# Altium footprint library 封装图库.PcbLib: 12 footprints
Each footprint in its own frame and in the unit in brackets; x right, y up, seen from the top. Pads: shape width x height; smd on the part's side, far side on the other; paste and mask are expansions set on the pad; w line width, h text height; cw(c..) or ccw(c..) is an arc to the next point about the centre after c.
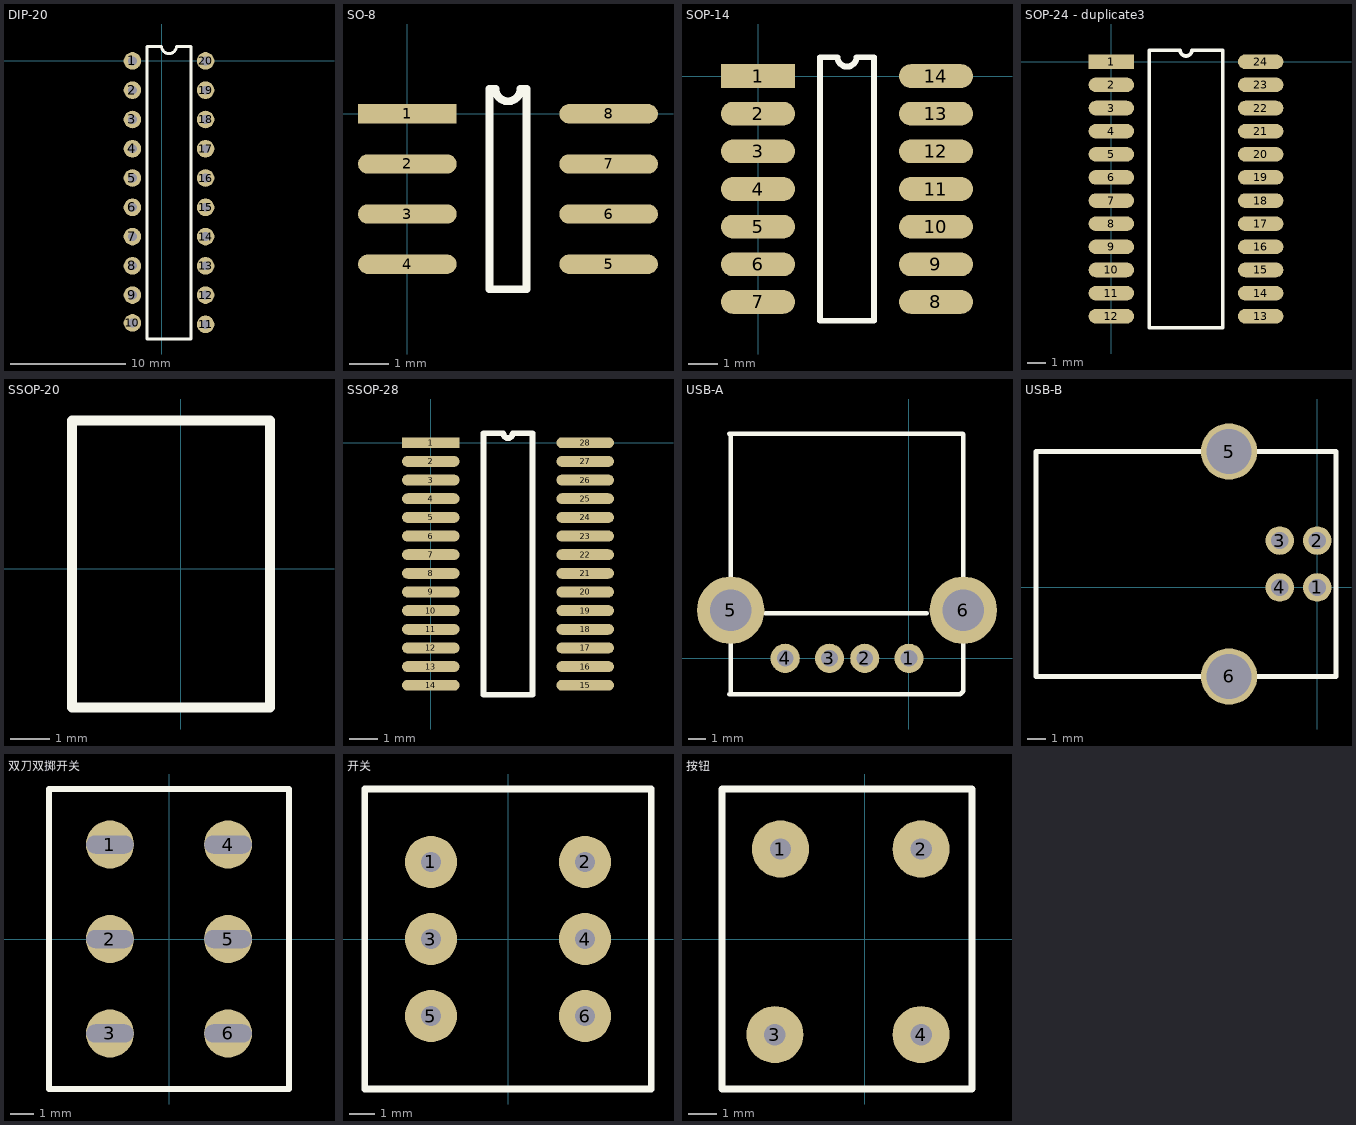
[diagram p0: the footprints below, top view; thin cyan lines are the x and y axes]

## DIP-20 [mil]
pads (20):
  round 60 hole 30: 1(-100,0) 2(-100,-100) 3(-100,-200) 4(-100,-300) 5(-100,-400) 6(-100,-500) 7(-100,-600) 8(-100,-700) 9(-100,-800) 10(-100,-895) 11(150,-900) 12(150,-800) 13(150,-700) 14(150,-600) 15(150,-500) 16(150,-400) 17(150,-300) 18(150,-200) 19(150,-100) 20(150,0)
Top Overlay:
  lines w10: -50,-950 100,-950 100,50 50,50 cw(c25,50) 0,50 -50,50 -50,-950

## SO-8 [mm]
pads (8):
  rect 2.5x0.49 smd: 1(0,0)
  oval 2.5x0.49 smd: 2(0,-1.27) 3(0,-2.54) 4(0,-3.81) 5(5.1,-3.81) 6(5.1,-2.54) 7(5.1,-1.27) 8(5.1,0)
Top Overlay:
  lines w0.2: 2.085,-4.445 2.085,0.635 2.232,0.635 ccw(c2.55,0.635) 2.867,0.635 3.015,0.635 3.015,-4.445 2.085,-4.445

## SOP-14 [mm]
pads (14):
  rect 2.5x0.8 smd: 1(0,0)
  oval 2.5x0.8 smd: 2(0,-1.27) 3(0,-2.54) 4(0,-3.81) 5(0,-5.08) 6(0,-6.35) 7(0,-7.62) 8(6,-7.62) 9(6,-6.35) 10(6,-5.08) 11(6,-3.81) 12(6,-2.54) 13(6,-1.27) 14(6,0)
Top Overlay:
  lines w0.2: 2.085,-8.255 3.915,-8.255 3.915,0.635 3.317,0.635 cw(c3,0.635) 2.682,0.635 2.085,0.635 2.085,-8.255

## SOP-24 - duplicate3 [mm]
pads (24):
  rect 2.5x0.8 smd: 1(0,0)
  oval 2.5x0.8 smd: 2(0,-1.27) 3(0,-2.54) 4(0,-3.81) 5(0,-5.08) 6(0,-6.35) 7(0,-7.62) 8(0,-8.89) 9(0,-10.16) 10(0,-11.43) 11(0,-12.7) 12(0,-13.97) 13(8.2,-13.97) 14(8.2,-12.7) 15(8.2,-11.43) 16(8.2,-10.16) 17(8.2,-8.89) 18(8.2,-7.62) 19(8.2,-6.35) 20(8.2,-5.08) 21(8.2,-3.81) 22(8.2,-2.54) 23(8.2,-1.27) 24(8.2,0)
Top Overlay:
  lines w0.2: 2.085,-14.605 6.115,-14.605 6.115,0.635 4.417,0.635 cw(c4.1,0.635) 3.782,0.635 2.085,0.635 2.085,-14.605

## SSOP-20 [mm]
pads (20):
  rect 1.2x0.3 on Bottom Paste: 1(-3.556,3.048) 2(-3.556,2.398) 3(-3.556,1.748) 4(-3.556,1.098) 5(-3.556,0.448) 6(-3.556,-0.202) 7(-3.556,-0.852) 8(-3.556,-1.502) 9(-3.556,-2.152) 10(-3.556,-2.802) 11(2.944,-2.802) 12(2.944,-2.152) 13(2.944,-1.502) 14(2.944,-0.852) 15(2.944,-0.202) 16(2.944,0.448) 17(2.944,1.098) 18(2.944,1.748) 19(2.944,2.398) 20(2.944,3.048)
Top Overlay:
  lines w0.254: -2.794,-3.556 -2.794,3.81 ; -2.76,-3.556 2.286,-3.556 2.286,3.81 -2.76,3.81

## SSOP-28 [mm]
pads (28):
  rect 2x0.38 smd: 1(0,0)
  oval 2x0.38 smd: 2(0,-0.65) 3(0,-1.3) 4(0,-1.95) 5(0,-2.6) 6(0,-3.25) 7(0,-3.9) 8(0,-4.55) 9(0,-5.2) 10(0,-5.85) 11(0,-6.5) 12(0,-7.15) 13(0,-7.8) 14(0,-8.45) 15(5.38,-8.45) 16(5.38,-7.8) 17(5.38,-7.15) 18(5.38,-6.5) 19(5.38,-5.85) 20(5.38,-5.2) 21(5.38,-4.55) 22(5.38,-3.9) 23(5.38,-3.25) 24(5.38,-2.6) 25(5.38,-1.95) 26(5.38,-1.3) 27(5.38,-0.65) 28(5.38,0)
Top Overlay:
  lines w0.2: 1.835,-8.775 3.545,-8.775 3.545,0.325 2.852,0.325 cw(c2.69,0.325) 2.528,0.325 1.835,0.325 1.835,-8.775

## USB-A [mil] "扁头USB封装"
pads (6):
  round 65 hole 37: 1(0,0) 2(-98.5,0) 3(-177,0) 4(-275.6,0)
  round 150 hole 93: 5(-397,107) 6(121,107)
Top Overlay:
  lines w10: -400,-80 114,-80 121,-73 121,107 121,499 120,500 -400,500 -397,497 -397,477 -397,107 -397,-77 ; -320,100 40,100

## USB-B [mm] "方头USB"
pads (6):
  round 1.524 hole 0.92: 1(0,0) 2(0,2.5) 3(-2,2.5) 4(-2,0)
  round 3 hole 2.4: 5(-4.7,7.25) 6(-4.7,-4.75)
Top Overlay:
  lines w0.254: -15,-4.75 -15,7.25 1,7.25 1,-4.75 -15,-4.75

## var_resister [mm]

## 双刀双掷开关 [mil] "双刀双掷开关封装"
pads (6):
  round 80 hole 30 slot 78.74 at 0 deg: 1(-98.43,157.48) 2(-98.43,0) 3(-98.43,-157.48) 4(98.43,157.48) 5(98.43,0) 6(98.43,-157.48)
Top Overlay:
  lines w10: -200,-250 -200,250 200,250 200,-250 -200,-250

## 开关 [mil]
pads (6):
  round 80 hole 30: 1(-118.11,118.11) 2(118.11,118.11) 3(-118.11,0) 4(118.11,0) 5(-118.11,-118.11) 6(118.11,-118.11)
Top Overlay:
  lines w10: -220,-230 220,-230 220,230 -220,230 -220,-230

## 按钮 [mil]
pads (4):
  round 80 hole 30: 1(-118.11,125.98) 2(78.74,125.98) 3(-125.98,-133.86) 4(78.74,-133.86)
Top Overlay:
  lines w10: -200,-210 150,-210 150,210 -200,210 -200,-210